# EAGLE library part FT121 (library FTDI)
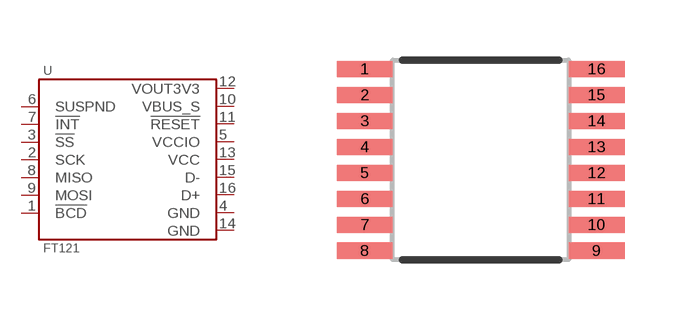
[diagram p7: symbol with the pads of TSSOP-16; footprint TSSOP-16]

Designator prefix U

## FT121T-R  [TSSOP-16]
1  !BCD
2  SCK
3  !SS
4  GND
5  VCCIO
6  SUSPND
7  !INT
8  MISO
9  MOSI
10  VBUS_S
11  !RESET
12  VOUT3V3
13  VCC
14  GND
15  D-
16  D+

## Footprint TSSOP-16 (pad centres in mm)
smd 1.4 x 0.4: 1 -2.9,2.275; 2 -2.9,1.625; 3 -2.9,0.975; 4 -2.9,0.325; 5 -2.9,-0.325; 6 -2.9,-0.975; 7 -2.9,-1.625; 8 -2.9,-2.275; 9 2.9,-2.275; 10 2.9,-1.625; 11 2.9,-0.975; 12 2.9,-0.325; 13 2.9,0.325; 14 2.9,0.975; 15 2.9,1.625; 16 2.9,2.275